# EAGLE library part MCP4725 (library MCP)
MCP4725 12-bit I2C DAC Ref=VDD A0 = address LSB A1,A2 selectable by ordering code
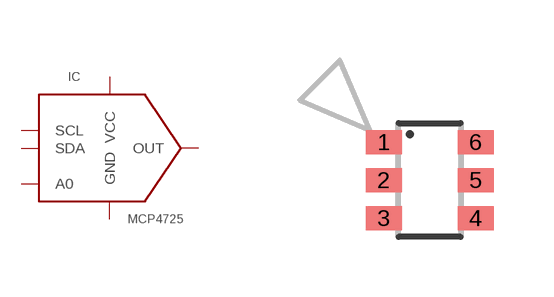
[diagram p0: symbol with the pads of SOT23-6; footprint SOT23-6]

Designator prefix IC

## MCP4725A0 (ADDRESS: 0x60; MARK: AJ__; MF: MICROCHIP; MPN: MCP4725A0T-E/CH), MCP4725A1 (ADDRESS: 0x62; MARK: AP__; MF: MICROCHIP; MPN: MCP4725A1T-E/CH), MCP4725A2 (ADDRESS: 0x64; MARK: AQ__; MF: MICROCHIP; MPN: MCP4725A2T-E/CH), MCP4725A3 (ADDRESS: 0x66; MARK: AR__; MF: MICROCHIP; MPN: MCP4725A3T-E/CH)  [SOT23-6]
1  OUT  in
2  GND  pwr
3  VCC  pwr
4  SDA
5  SCL  in
6  A0  in

## Footprint SOT23-6 (pad centres in mm)
Small Outline Transistor 6 lead
smd 0.9 x 0.6: 1 -1.15,0.95; 2 -1.15,0; 3 -1.15,-0.95; 4 1.15,-0.95; 5 1.15,0; 6 1.15,0.95